# EAGLE library part ESP32-WROVER-B (library ESP32)
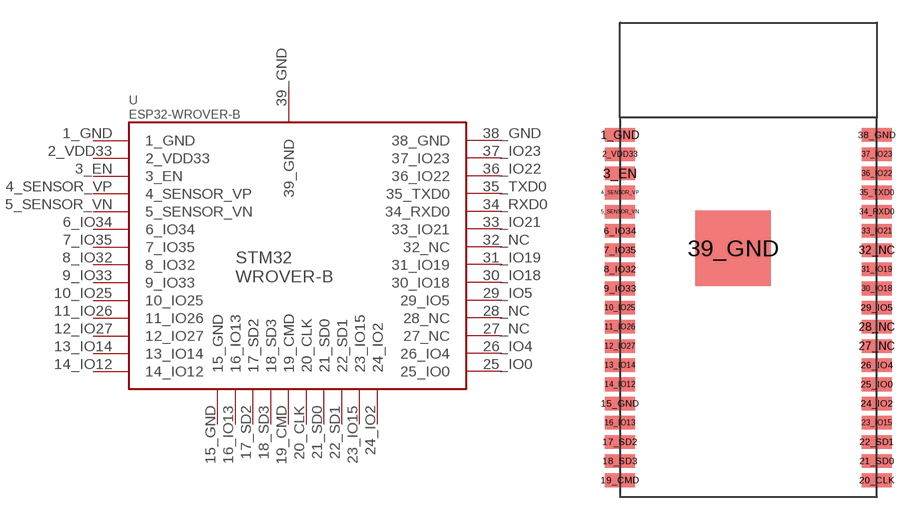
[diagram p2: symbol with the pads of ESP32-WROVER-B; footprint ESP32-WROVER-B]

Designator prefix U

## ESP32-WROVER-B  [ESP32-WROVER-B]
1_GND  1_GND
2_VDD33  2_VDD33
3_EN  3_EN
4_SENSOR_VP  4_SENSOR_VP
5_SENSOR_VN  5_SENSOR_VN
6_IO34  6_IO34
7_IO35  7_IO35
8_IO32  8_IO32
9_IO33  9_IO33
10_IO25  10_IO25
11_IO26  11_IO26
12_IO27  12_IO27
13_IO14  13_IO14
14_IO12  14_IO12
15_GND  15_GND
16_IO13  16_IO13
17_SD2  17_SD2
18_SD3  18_SD3
19_CMD  19_CMD
20_CLK  20_CLK
21_SD0  21_SD0
22_SD1  22_SD1
23_IO15  23_IO15
24_IO2  24_IO2
25_IO0  25_IO0
26_IO4  26_IO4
27_NC  27_NC
28_NC  28_NC
29_IO5  29_IO5
30_IO18  30_IO18
31_IO19  31_IO19
32_NC  32_NC
33_IO21  33_IO21
34_RXD0  34_RXD0
35_TXD0  35_TXD0
36_IO22  36_IO22
37_IO23  37_IO23
38_GND  38_GND
39_GND  39_GND

## Footprint ESP32-WROVER-B (pad centres in mm)
smd 2 x 0.9: 1_GND -7.5,7.5; 2_VDD33 -7.5,6.23; 3_EN -7.5,4.96; 4_SENSOR_VP -7.5,3.69; 5_SENSOR_VN -7.5,2.42; 6_IO34 -7.5,1.15; 7_IO35 -7.5,-0.12; 8_IO32 -7.5,-1.39; 9_IO33 -7.5,-2.66; 10_IO25 -7.5,-3.93; 11_IO26 -7.5,-5.2; 12_IO27 -7.5,-6.47; 13_IO14 -7.5,-7.74; 14_IO12 -7.5,-9.01; 15_GND -7.5,-10.28; 16_IO13 -7.5,-11.55; 17_SD2 -7.5,-12.82; 18_SD3 -7.5,-14.09; 19_CMD -7.5,-15.36; 20_CLK 9.5,-15.36; 21_SD0 9.5,-14.09; 22_SD1 9.5,-12.82; 23_IO15 9.5,-11.55; 24_IO2 9.5,-10.28; 25_IO0 9.5,-9.01; 26_IO4 9.5,-7.74; 27_NC 9.5,-6.47; 28_NC 9.5,-5.2; 29_IO5 9.5,-3.93; 30_IO18 9.5,-2.66; 31_IO19 9.5,-1.39; 32_NC 9.5,-0.12; 33_IO21 9.5,1.15; 34_RXD0 9.5,2.42; 35_TXD0 9.5,3.69; 36_IO22 9.5,4.96; 37_IO23 9.5,6.23; 38_GND 9.5,7.5
smd 5 x 5: 39_GND 0,0